# Altium schematic symbol library 1025.SchLib: 4 symbols
Pins are listed as number, name and electrical type; pins without a type are passive.

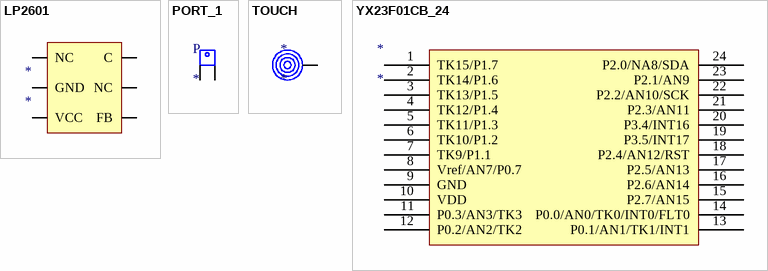
[diagram p0: symbols LP2601 to YX23F01CB_24]

## LP2601
designator *
pins: 1 VCC (oc), 2 GND (oc), 3 NC (oc), 4 C (oc), 5 NC (oc), 6 FB (oc)

## PORT_1
designator P
pins: 1, 2 1

## TOUCH
designator *
pins: 1

## YX23F01CB_24
designator *
footprint SOP24_M (15.4*10.6*2.6mm（长宽高）)
pins: 1 TK15/P1.7 (oc), 2 TK14/P1.6 (oc), 3 TK13/P1.5 (oc), 4 TK12/P1.4 (oc), 5 TK11/P1.3 (oc), 6 TK10/P1.2 (oc), 7 TK9/P1.1 (oc), 8 Vref/AN7/P0.7 (oc), 9 GND (power), 10 VDD (power), 11 P0.3/AN3/TK3 (oc), 12 P0.2/AN2/TK2 (oc), 13 P0.1/AN1/TK1/INT1 (oc), 14 P0.0/AN0/TK0/INT0/FLT0 (oc), 15 P2.7/AN15 (oc), 16 P2.6/AN14 (oc), 17 P2.5/AN13 (oc), 18 P2.4/AN12/RST (oc), 19 P3.5/INT17 (oc), 20 P3.4/INT16 (oc), 21 P2.3/AN11 (oc), 22 P2.2/AN10/SCK (oc), 23 P2.1/AN9 (oc), 24 P2.0/NA8/SDA (oc)